# Altium schematic symbol library CB_REV_C.SCHLIB: 34 symbols
Pins are listed as number, name and electrical type; pins without a type are passive.

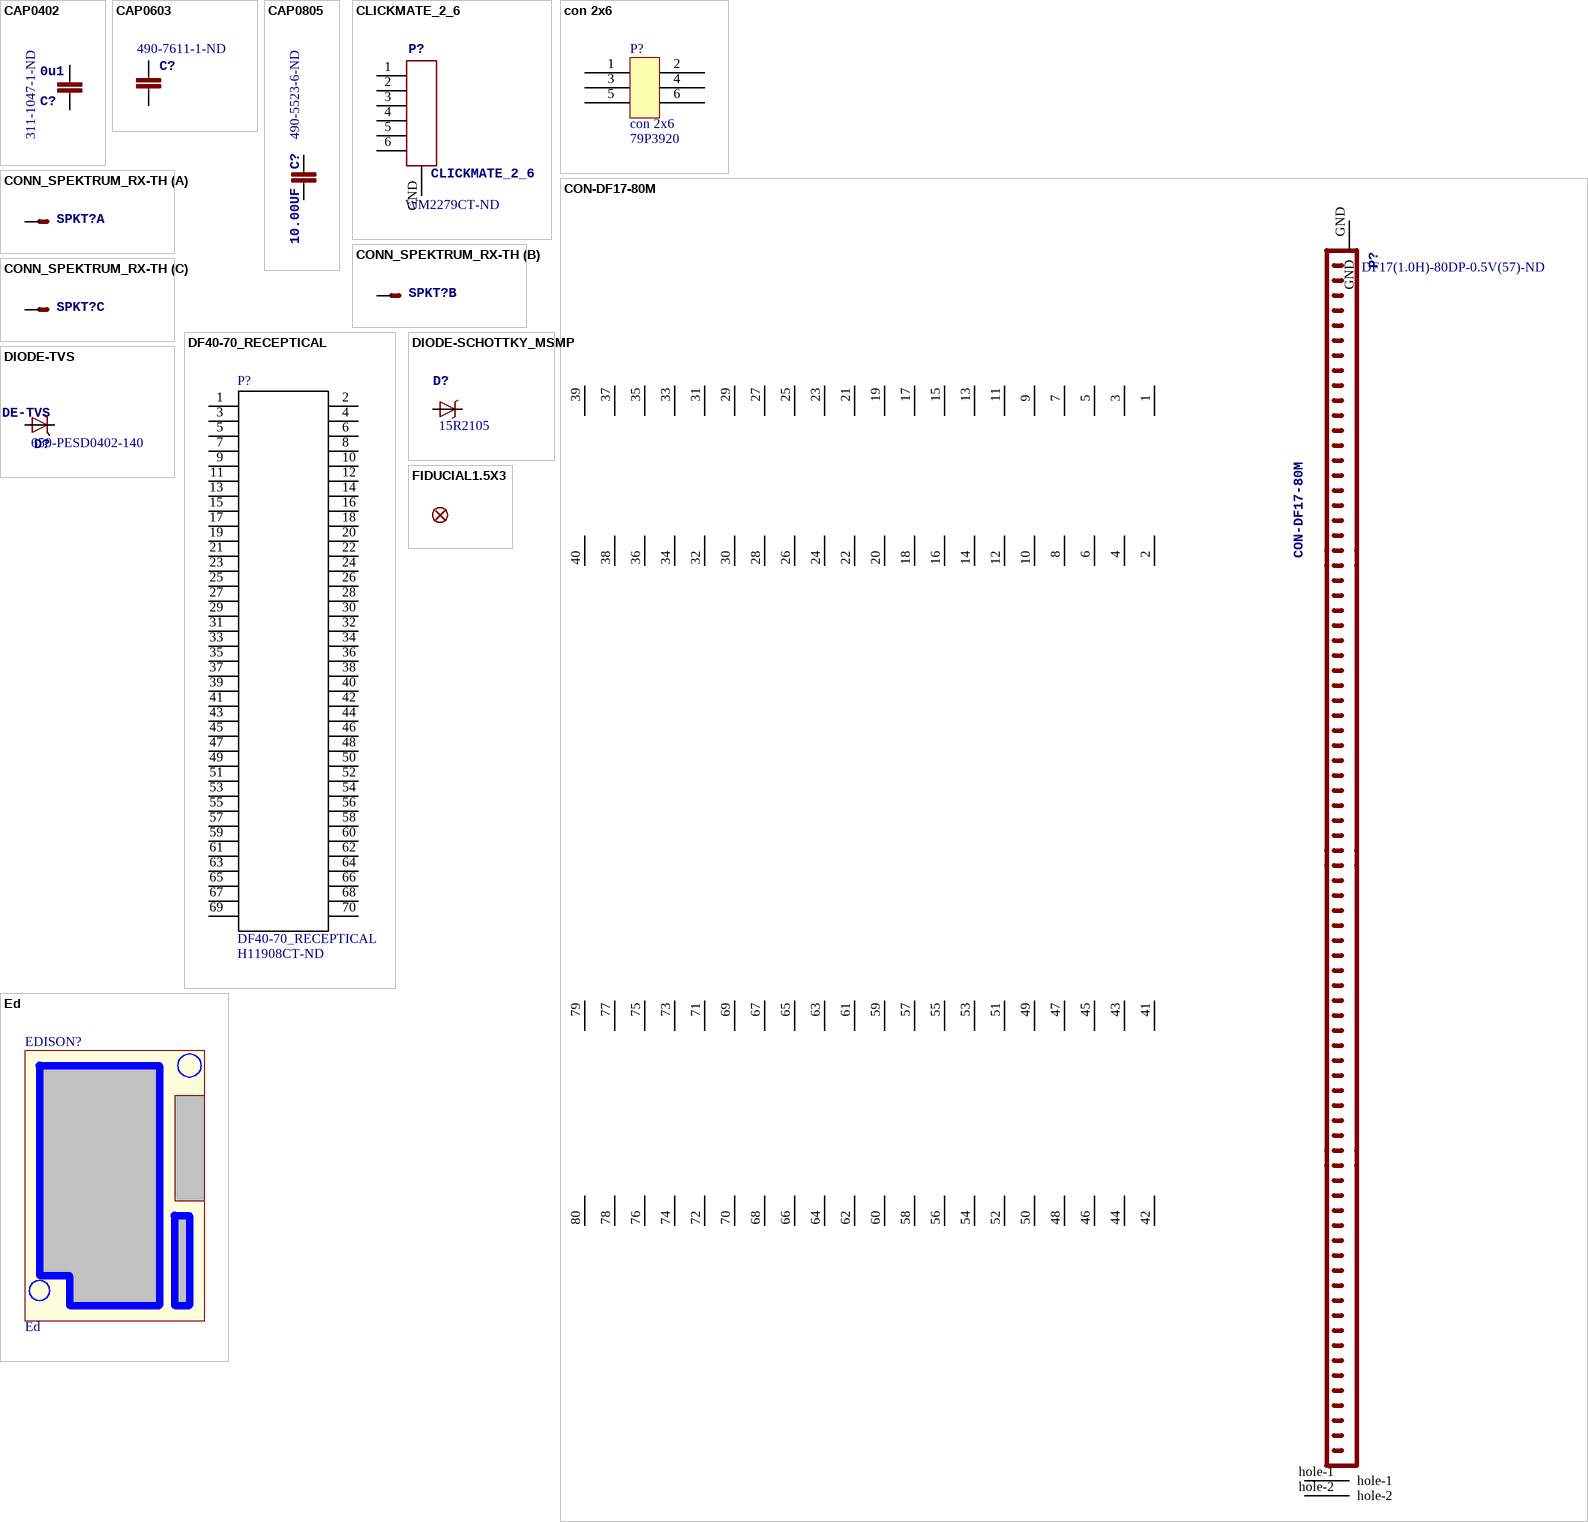
[diagram p0: symbols CAP0402 to FIDUCIAL1.5X3]

## CAP0402
designator C?, comment 0u1  Supplier Part Number 1: 311-1047-1-ND
PARTNO: CC0402ZRY5V7BB104; Supplier 1: Digi-Key
footprint 0402-CAP
pins: P$1 1, P$2 2

## CAP0603
designator C?  Supplier Part Number 1: 490-7611-1-ND
Supplier 1: Digi-Key
footprint 0603-CAP
pins: P$1 1, P$2 2

## CAP0805
designator C?, comment 10.00UF  Supplier Part Number 1: 490-5523-6-ND
CAPC,X5R,0805,10.00UF,25.00V,+/-10%; Supplier 1: Digi-Key
footprint 0805-CAP
pins: P$1 1, P$2 2

## CLICKMATE_2_6
designator P?  Supplier Part Number 1: WM2279CT-ND
Connector, Header, 6Pos, 2.54MM, Vert, THT, Au; Supplier 1: Digi-Key
footprint CLICKMATE_V6_2MM
footprint CLICKMATE_H6_2MM
pins: 1, 2, 3, 4, 5, 6, GND

## con 2x6
designator P?  Supplier Part Number 1: 79P3920
Connector, Header, 6Pos, 2.54MM, Vert, THT, Au; Supplier 1: Newark
footprint TSW-103-07-G-D (2x6 pin)
pins: 1, 2, 3, 4, 5, 6

## CON-DF17-80M
designator P?  Supplier Part Number 1: DF17(1.0H)-80DP-0.5V(57)-ND
Connector, Header, 80Pos, .5MM, DUAL, SMD, Au; Supplier 1: Digi-Key
footprint CON-DF17-80M
pins: 1, 2, 3, 4, 5, 6, 7, 8, 9, 10, 11, 12, 13, 14, 15, 16, 17, 18, 19, 20, 21, 22, 23, 24, 25, 26, 27, 28, 29, 30, 31, 32, 33, 34, 35, 36, 37, 38, 39, 40, 41, 42, 43, 44, 45, 46, 47, 48, 49, 50, 51, 52, 53, 54, 55, 56, 57, 58, 59, 60, 61, 62, 63, 64, 65, 66, 67, 68, 69, 70, 71, 72, 73, 74, 75, 76, 77, 78, 79, 80, GND, hole-1, hole-2

## CONN_SPEKTRUM_RX-TH
designator SPKT?  (value not drawn)
Spektrum RX connector; JST ZH series S3B-ZR-SM4A-TF; PARTNO: B3B-ZR(LF)(SN)
footprint B3B-ZR
footprint B3B-ZR
footprint B3B-ZR
part A pins: 3 S
part B pins: 2 S
part C pins: 1 S

## DF40-70_RECEPTICAL
designator P?  Supplier Part Number 1: H11908CT-ND
Supplier 1: Digi-Key
footprint DF40-70_RECEPTICAL
pins: 1 P$1, 2 P$2, 3 P$3, 4 P$4, 5 P$5, 6 P$6, 7 P$7, 8 P$8, 9 P$9, 10 P$10, 11 P$11, 12 P$12, 13 P$13, 14 P$14, 15 P$15, 16 P$16, 17 P$17, 18 P$18, 19 P$19, 20 P$20, 21 P$21, 22 P$22, 23 P$23, 24 P$24, 25 P$25, 26 P$26, 27 P$27, 28 P$28, 29 P$29, 30 P$30, 31 P$31, 32 P$32, 33 P$33, 34 P$34, 35 P$35, 36 P$36, 37 P$37, 38 P$38, 39 P$39, 40 P$40, 41 P$41, 42 P$42, 43 P$43, 44 P$44, 45 P$45, 46 P$46, 47 P$47, 48 P$48, 49 P$49, 50 P$50, 51 P$51, 52 P$52, 53 P$53, 54 P$54, 55 P$55, 56 P$56, 57 P$57, 58 P$58, 59 P$59, 60 P$60, 61 P$61, 62 P$62, 63 P$63, 64 P$64, 65 P$65, 66 P$66, 67 P$67, 68 P$68, 69 P$69, 70 P$70

## DIODE-SCHOTTKY_MSMP
designator D?, comment Supplier Part Number 1: 15R2105  (hidden comment: MSS1P4-M3)
Diode, Schottky, 40V, 1A, MicroSMP, SMD; Supplier 1: Newark
footprint MICROSMP
pins: ANODE A, CATHODE C

## DIODE-TVS
designator D?  Supplier Part Number 1: 650-PESD0402-140
Diode, TVS, 14VWM, 40VC, 0402, SMD; Supplier 1: Mouser
footprint 0402-TVS
pins: A, C

## Ed
designator EDISON?
footprint ed

## FIDUCIAL1.5X3
designator JP?  (value not drawn)
machine vision alignment.; BOM: EXCLUDE; PARTNO: *

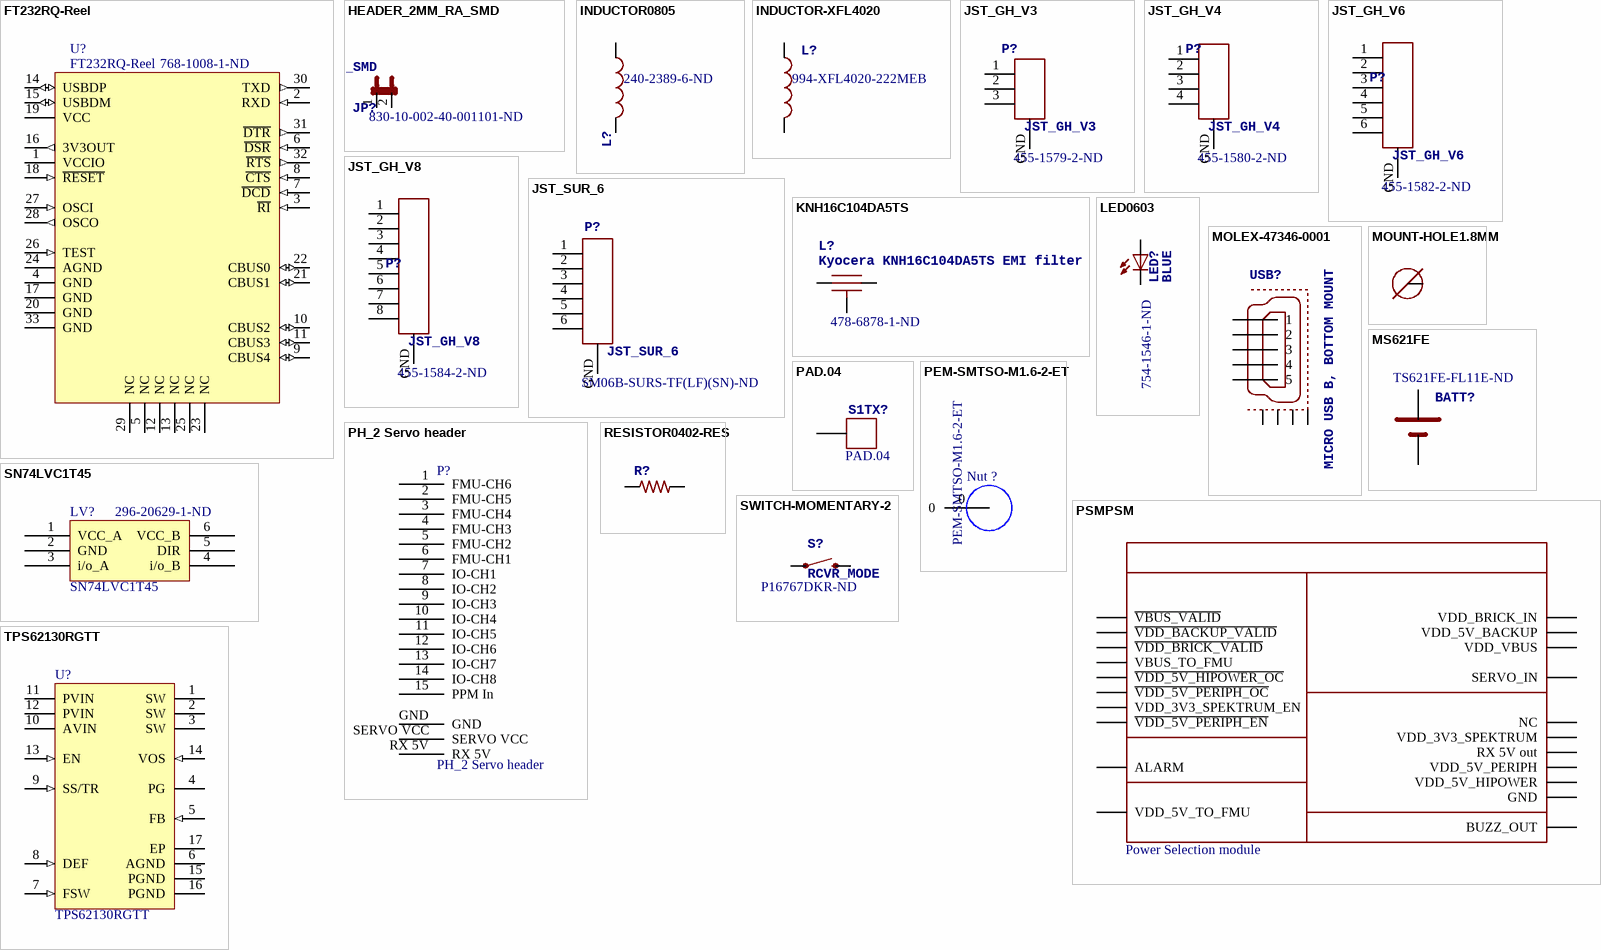
[diagram p1: symbols FT232RQ-Reel to TPS62130RGTT]

## FT232RQ-Reel
designator U?  Supplier Part Number 1: 768-1008-1-ND
USB UART Asynchronous Serial Data Transfer Chip, 32-pin QFN, Tape and Reel; Manufacturer: FTDI; DatasheetVersion: ver 2.10, Mar-2012; PackageVersion: Mar-12; PackageReference: PQFN5X5-32; PackageDescription: 32-Pin Quad Flat No-Lead 0.5 mm Pitch, Pullback, 3.2 x 3.2 mm Exposed Pad; PartNumber: FT232RQ-Reel; ComponentLink1Description: Manufacturer URL; ComponentLink1URL: http://www.ftdichip.com/; ComponentLink2Description: Datasheet; ComponentLink2URL: http://www.ftdichip.com/Support/Documents/DataSheets/ICs/DS_FT232R.pdf; Supplier 1: Digi-Key
footprint PQFN5X5-32_V (QFN, 32-Leads, Body 5x5mm, Pitch 0.5mm, Thermal Pad 3.3x3.3mm, FTDI Recommended)
pins: 1 VCCIO (power), 2 RXD (in), 3 ~{RI} (in), 4 GND (power), 5 NC, 6 ~{DSR} (in), 7 ~{DCD} (in), 8 ~{CTS} (in), 9 CBUS4 (io), 10 CBUS2 (io), 11 CBUS3 (io), 12 NC, 13 NC, 14 USBDP (io), 15 USBDM (io), 16 3V3OUT (out), 17 GND (power), 18 ~{RESET} (in), 19 VCC (power), 20 GND (power), 21 CBUS1 (io), 22 CBUS0 (io), 23 NC, 24 AGND (power), 25 NC, 26 TEST (in), 27 OSCI (in), 28 OSCO (out), 29 NC, 30 TXD (out), 31 ~{DTR} (out), 32 ~{RTS} (out), 33 GND (power)

## HEADER_2MM_RA_SMD
designator JP?  Supplier Part Number 1: 830-10-002-40-001101-ND
Connector, PCB, 2MM, 2Pos, R/A, SMD, Au; Supplier 1: Digi-Key
footprint HEADER_2MM_RA_2
pins: 1, 2

## INDUCTOR0805
designator L?  Supplier Part Number 1: 240-2389-6-ND
Supplier 1: Digi-Key
footprint 0805-IND
pins: P$1 1, P$2 2

## INDUCTOR-XFL4020
designator L?, comment Supplier Part Number 1: 994-XFL4020-222MEB  (hidden comment: XFL4020-222MEB)
Supplier 1: Mouser
footprint XFL4020 (Precision Wire Wound Inductor, 2-Leads, Body 4.00x4.00mm, IPC Medium Density); pin to pad P$1>1 P$2>2
pins: P$1 1, P$2 2

## JST_GH_V3
designator P?  Supplier Part Number 1: 455-1579-2-ND
BM03B-GHS-TBT; Supplier 1: Digi-Key
footprint JST_GH_V3
pins: 1, 2, 3, GND

## JST_GH_V4
designator P?  Supplier Part Number 1: 455-1580-2-ND
BM04B-GHS-TBT; Supplier 1: Digi-Key
footprint JST_GH_V4
pins: 1, 2, 3, 4, GND

## JST_GH_V6
designator P?  Supplier Part Number 1: 455-1582-2-ND
BM06B-GHS-TBT; Supplier 1: Digi-Key
footprint JST_GH_V6
pins: 1, 2, 3, 4, 5, 6, GND

## JST_GH_V8
designator P?  Supplier Part Number 1: 455-1584-2-ND
BM08B-GHS-TBT; Supplier 1: Digi-Key
footprint JST_GH_V8
pins: 1, 2, 3, 4, 5, 6, 7, 8, GND

## JST_SUR_6
designator P?  Supplier Part Number 1: SM06B-SURS-TF(LF)(SN)-ND
Connector, Header, 6Pos, .8mm IDC, R/A, SMD, Tin; Supplier 1: Digi-Key
footprint JST_SUR_H6
pins: 1, 2, 3, 4, 5, 6, GND

## KNH16C104DA5TS
designator L?, comment Kyocera KNH16C104DA5TS EMI filter  Supplier Part Number 1: 478-6878-1-ND
Capacitor, Filter, 0.1uF, 25V, 2A, 0603, SMD; Supplier 1: Digi-Key
footprint KYOCERA-KNH16-DA
pins: GND, P$1, P$2

## LED0603
designator LED?, comment BLUE  Supplier Part Number 1: 754-1546-1-ND
<b>LEDs</b> / Standard schematic elements and footprints for 5mm, 3mm, 1206, and 0603 sized LEDs. 5mm - Spark Fun Electronics SKU : COM-00529 (and others); Supplier 1: Digi-Key
footprint 0603-LED-Blue (0603-LED_Blue)
pins: A, C

## MOLEX-47346-0001
designator USB?, comment MICRO USB B, BOTTOM MOUNT
footprint MOLEX-47346-0001
pins: D+ 3, D- 2, GND 5 (oe), GND1, GND2, GND3, GND4, ID 4, VBUS 1 (oe)

## MOUNT-HOLE1.8MM
designator M3_MOUNT?  (value not drawn)
footprint MOUNT-HOLE1.8
pins: 1

## MS621FE
designator BATT?  Supplier Part Number 1: TS621FE-FL11E-ND
MFGPN: TS621FE; DATASHEET: http://speed.sii.co.jp/data/file_PRODUCT_MASTER_50112_TITLE_IMAGESP.pdf; LINK: http://search.digikey.com/us/en/products/MS621FE-FL11E/728-1057-ND/1889208; Supplier 1: Digikey
footprint MS621FE
pins: 1 POS, 2 NEG

## PAD.04
designator S1TX?
footprint PAD.04X.04
pins: P$1

## PEM-SMTSO-M1.6-2-ET
designator Nut ?
Fastener, M1.6x0.35mm, 8.00MM Pitch, SMTSO, CS; Mfg Part Num (Alternate): Check; Manufacturer 1: PennEngineering; Supplier Part Number 1: PEM-SMTSO-M1.6-2-ET; Supplier 1: PennEngineering; Manufacturer Part Number 1: PEM-SMTSO-M1.6-2-ET; Supplier Unit Price 1: 0.7
footprint PEM-SMTSO-M1.6-2-ET (Surface mount thread)
pins: 0

## PH_2 Servo header
designator P?
Connector, Header, 45Pos, 2.54MM, R/A, THT, Tin
footprint TSW-115-08-G-T-RA (15 pin head)
pins: 1 FMU-CH6, 2 FMU-CH5, 3 FMU-CH4, 4 FMU-CH3, 5 FMU-CH2, 6 FMU-CH1, 7 IO-CH1, 8 IO-CH2, 9 IO-CH3, 10 IO-CH4, 11 IO-CH5, 12 IO-CH6, 13 IO-CH7, 14 IO-CH8, 15 PPM In, GND, RX 5V, SERVO VCC

## PSMPSM
designator PSM?, comment Power Selection module
PCA, PSM, Assembly
footprint PSM
pins: 5V_HIPOWER VDD_5V_HIPOWER, 5V_PERIPH VDD_5V_PERIPH, !VBUS_VALID ~{VBUS_VALID}, !VDD_5V_HIPOWER_OC ~{VDD_5V_HIPOWER_OC}, !VDD_5V_PERIPH_EN ~{VDD_5V_PERIPH_EN}, !VDD_5V_PERIPH_OC ~{VDD_5V_PERIPH_OC}, !VDD_BACKUP_VALID ~{VDD_BACKUP_VALID}, !VDD_BRICK_VALID ~{VDD_BRICK_VALID}, ALARM, BUZZER_OUT BUZZ_OUT, GND, NC, RX RX 5V out, SERVO_IN, SPEK VDD_3V3_SPEKTRUM, VBUS VBUS_TO_FMU, VDD_3V3_SPEKTRUM_EN, VDD_5V_BACKUP, VDD_5V_IN_PROT VDD_5V_TO_FMU, VDD_BRICK_IN, VDD_VBUS

## RESISTOR0402-RES
designator R?
pins: P$1 1, P$2 2

## SN74LVC1T45
designator LV?  Supplier Part Number 1: 296-20629-1-ND
Supplier 1: Digi-Key
footprint DRL
pins: 1 VCC_A, 2 GND, 3 i/o_A, 4 i/o_B, 5 DIR, 6 VCC_B

## SWITCH-MOMENTARY-2
designator S?, comment RCVR_MODE  Supplier Part Number 1: P16767DKR-ND
Supplier 1: Digi-Key
footprint EVQP7J01K
pins: A1 1, B3 2

## TPS62130RGTT
designator U?
footprint RGT16-1700X1700TP (QFN, 16-Leads, Body 3x3mm, Pitch 0.5mm, Thermal Pad 1.7x1.7mm, TI Recommended)
pins: 1 SW (power) "Switch node, which is connected to the internal MOSFET switches. Connect inductor between SW and output capacitor", 2 SW (power) "Switch node, which is connected to the internal MOSFET switches. Connect inductor between SW and output capacitor", 3 SW (power) "Switch node, which is connected to the internal MOSFET switches. Connect inductor between SW and output capacitor", 4 PG (hiz) "Output power good (High = VOUT ready, Low = VOUT below nominal regulation) ; open drain (requires pull-up resistor; goes high impedance, when device is switched off)", 5 FB (in) "Voltage feedback of adjustable version. Connect resistive voltage divider to this pin. It is recommended to connect FB to AGND on fixed output voltage versions for improved thermal performance", 6 AGND (power) "Analog Ground", 7 FSW (in) "Switching Frequency Select (Low ˜ 2.5MHz, High ˜ 1.25MHz for typical operation)", 8 DEF (in) "Output Voltage Scaling (Low = nominal, High = nominal + 5%)", 9 SS/TR (in) "Soft-Start/Tracking Pin .An external capacitor connected to this pin sets the internal voltage reference rise time .It can be used for tracking and sequencing.", 10 AVIN (power) "Supply voltage for control circuitry. Connect to same source as PVIN.", 11 PVIN (power) "Supply voltage for power stage. Connect to same source as AVIN", 12 PVIN (power) "Supply voltage for power stage. Connect to same source as AVIN", 13 EN (in) "Enable input (High = enabled, Low = disabled)", 14 VOS (in) "Output voltage sense pin and connection for the control loop circuitry.", 15 PGND (power) "Power ground", 16 PGND (power) "Power ground", 17 EP (power) "Must be connected to AGND. Must be soldered to achieve appropriate power dissipation and mechanical reliability"